# Altium schematic symbol library integrated library.SchLib: 4 symbols
Pins are listed as number, name and electrical type; pins without a type are passive.

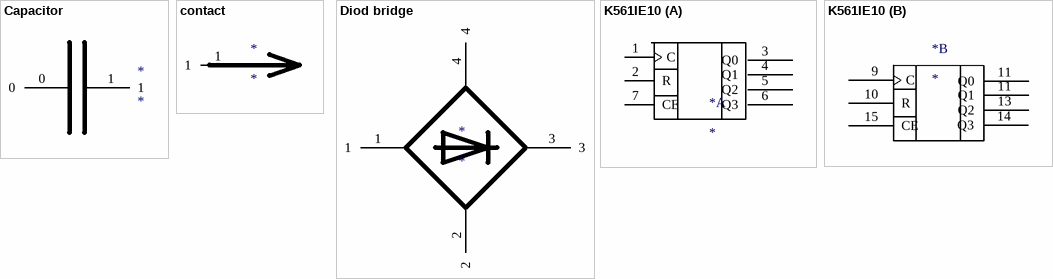
[diagram p0: symbols Capacitor to K561IE10]

## Capacitor
designator *
footprint Capacitor
pins: 0, 1 (power)

## contact
designator *
footprint Contact
pins: 1

## Diod bridge
designator *
footprint Diod bridge
pins: 1, 2, 3, 4

## K561IE10
designator *
part A pins: 1 C (power), 2 R, 3 Q0, 4 Q1, 5 Q2, 6 Q3, 7 CE
part B pins: 9 C (power), 10 R, 11 Q0, 11 Q1, 13 Q2, 14 Q3, 15 CE